# Altium schematic symbol library TRANS_PNP_MMSS8550-H.Schlib: 1 symbol
Pins are listed as number, name and electrical type; pins without a type are passive.

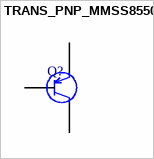
[diagram p0: symbol TRANS_PNP_MMSS8550-H]

## TRANS_PNP_MMSS8550-H
designator Q?, comment PNP  (value not drawn)
TRANS PNP 25V 1.5A
footprint NPN8050G-SOT23 (SOT23, 3-Leads, Body 2.90x2.40mm, Pitch 0.95mm, IPC Medium Density)
pins: 1 B, 2 E, 3 C